# EAGLE library part HEADER-2X4P (library Deegou_Connector)
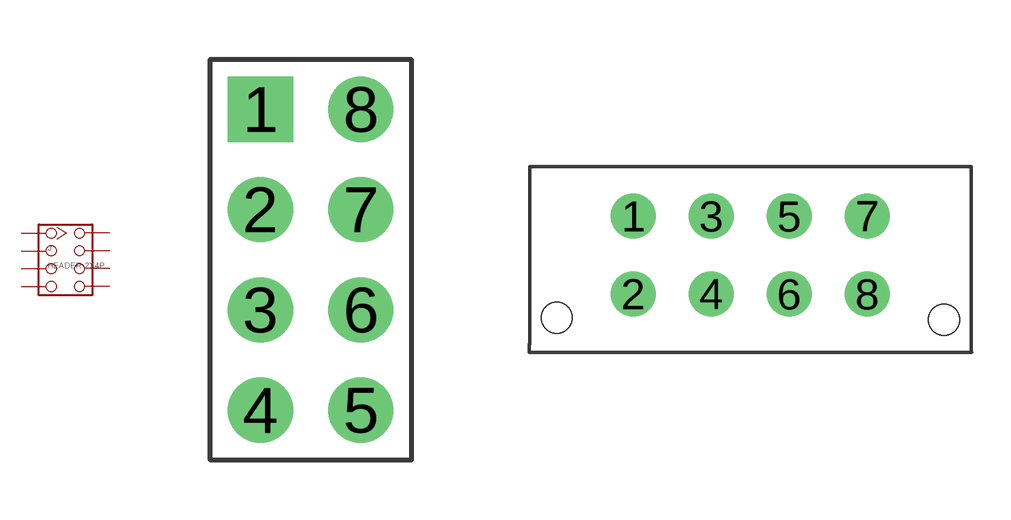
[diagram p2: symbol with the pads of 2X4P-2.54; footprints 2X4P-2.54, 2X4P-3.0MM]

Designator prefix J

## HEADER-2X4P-2.54  [2X4P-2.54]
1  1
2  2
3  3
4  4
5  5
6  6
7  7
8  8

## HEADER-2X4P-3.0  [2X4P-3.0MM]
1  1
2  8
3  2
4  7
5  3
6  6
7  4
8  5

## HEADER-2X4P-3.0-90  [2X4P-3.0-90]
Pads as for 2X4P-2.54

## HEADER-2X4P-5.08  [2X4P-5.08]
Pads as for 2X4P-2.54

## HEADER-2X4P  [2X4P-2.0_TEST]
Pads as for 2X4P-2.54

## Footprint 2X4P-2.54 (pad centres in mm)
drill 0.889 pad 1.651 square: 1 -1.27,3.81
drill 0.889 pad 1.651: 2 -1.27,1.27; 3 -1.27,-1.27; 4 -1.27,-3.81; 5 1.27,-3.81; 6 1.27,-1.27; 7 1.27,1.27; 8 1.27,3.81

## Footprint 2X4P-3.0MM (pad centres in mm)
drill 1.15: 1 0,0; 2 0,-3; 3 3,0; 4 3,-3; 5 6,0; 6 6,-3; 7 9,0; 8 9,-3
hole 1.2 at -2.95,-3.92
hole 1.2 at 11.96,-4

## Footprint 2X4P-3.0-90 (pad centres in mm)
drill 1.1: 1 9,0; 2 6,0; 3 3,0; 4 0,0; 5 0,3; 6 3,3; 7 6,3; 8 9,3
hole 3.05 at 2.16,-4.32
hole 3.05 at 6.48,-4.32
hole 3.05 at 6.48,-4.32

## Footprint 2X4P-5.08 (pad centres in mm)
drill 1.4 pad 2.54: 1 -8.89,5.08; 2 -3.81,5.08; 3 1.27,5.08; 4 6.35,5.08; 5 8.89,-5.08; 6 3.81,-5.08; 7 -1.27,-5.08; 8 -6.35,-5.08

## Footprint 2X4P-2.0_TEST (pad centres in mm)
smd 1.4 x 1.4: 1 -1,3; 2 -1,1; 3 -1,-1; 4 -1,-3; 5 1,-3; 6 1,-1; 7 1,1; 8 1,3